# Altium footprint library wikiduino-atmega328p.PcbLib: 28 footprints (part 1 of 2)
Each footprint in its own frame and in the unit in brackets; x right, y up, seen from the top. Pads: shape width x height; smd on the part's side, far side on the other; paste and mask are expansions set on the pad; w line width, h text height; cw(c..) or ccw(c..) is an arc to the next point about the centre after c.
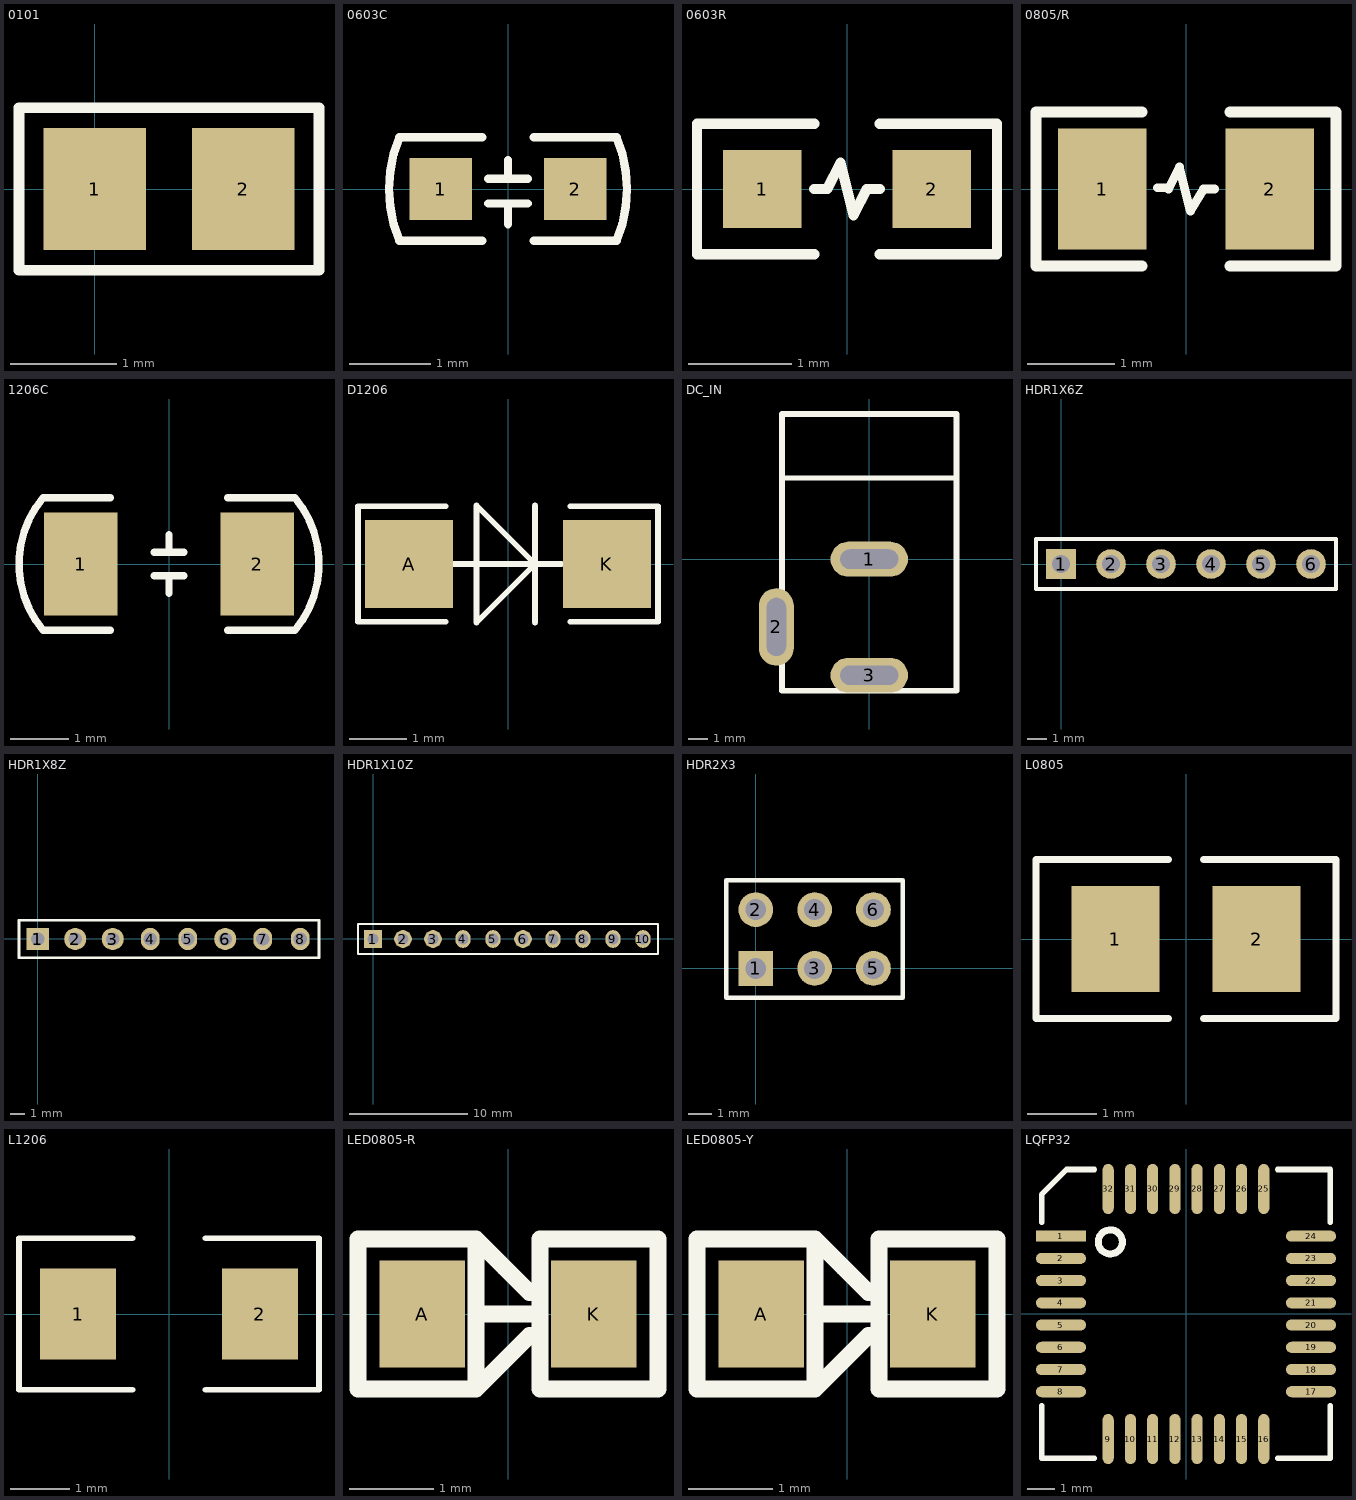
[diagram p0: the footprints below, top view; thin cyan lines are the x and y axes]

## 0101 [mil]
pads (2):
  rect 38x45 smd: 1(0,0) 2(55,0)
Top Overlay:
  lines w3.94: -28,-30 83,-30 83,30 -28,30 -28,-30

## 0603C [mil]
pads (2):
  rect 30x30 smd: 1(-32.5,0) 2(32.5,0)
Top Overlay:
  lines w4: -12.5,-25 -52.5,-25 cw(c7.5,0) -52.5,25 -12.5,25 ; -9.5,-7 9.5,-7 ; -9.5,5 9.5,5 ; 0,-17 0,-7 ; 0,5 0,14 ; 12.5,-25 52.5,-25 ccw(c-7.5,0) 52.5,25 12.5,25
3D body: height 17.72, standoff 0, extent -29.5,-15.5 33.5,16

## 0603R [mil]
pads (2):
  rect 30x30 smd: 1(-32.5,0) 2(32.5,0)
Top Overlay:
  lines w4: -12.5,-25 -57.5,-25 -57.5,25 -12.5,25 ; -12.5,0 -7.5,0 -2.5,10 2.5,-10 7.5,0 12.5,0 ; 12.5,-25 57.5,-25 57.5,25 12.5,25
3D body: height 17.72, standoff 0, extent -31.46,-14.37 31.53,17.12

## 0805/R [mil]
pads (2):
  rect 40x55 smd: 1(-38,0) 2(38,0)
Top Overlay:
  lines w4: -13,0.57 -8,0.57 ; -8,0 -3,10 2,-10 8,0 13,0
  lines w5: -20,-35 -68,-35 -68,35 -20,35 ; 20,-35 68,-35 68,35 20,35
3D body: height 21.65, standoff 0, extent -39,-25 39.74,24.61

## 1206C [mil]
pads (2):
  rect 50x70 smd: 1(-60,0) 2(60,0)
Top Overlay:
  lines w5: -85.62,-45 cw(c-32,0) -85.62,45 ; -85,-45 -40,-45 ; -85,45 -40,45 ; -10,-8 10,-8 ; -10,8 10,8 ; 0,-20 0,-8 ; 0,8 0,20 ; 40,-45 85,-45 ; 40,45 85,45 ; 85.62,-45 ccw(c32,0) 85.62,45
3D body: height 21.65, standoff 0, extent -64,-31 61.98,31.99

## D1206 [mil]
pads (2):
  rect 60x60 smd: A(-67.5,0) K(67.5,0)
Top Overlay:
  lines w3.94: -42.5,-39.37 -102.36,-39.37 -102.36,39.37 -42.5,39.37 ; -37.5,0 36.5,0 ; 18.5,-40 18.5,0 ; 18.5,40 18.5,0 ; 42.5,-39.37 102.36,-39.37 102.36,39.37 42.5,39.37 ; 18.5,0 -21.5,40 -21.5,-40 18.5,0
3D body: height 59.06, standoff 0, extent -66.4,-30 71.4,29.06

## DC_IN [mm]
pads (3):
  oval 4x1.8 hole 1 slot 3 at 0 deg: 1(0,0) 3(0,-6)
  oval 1.8x4 hole 1 slot 3 at 90 deg: 2(-4.8,-3.5)
Top Overlay:
  lines w0.254: -4.5,4.2 4.5,4.2
  lines w0.305: -4.5,-6.8 4.5,-6.8 4.5,7.5 -4.5,7.5 -4.5,-6.8
3D body: height 11.25, standoff -3.25, extent -4.775,-6.262 4.73,7.564

## HDR1X6Z [mm]
pads (6):
  rect 1.5x1.5 hole 0.9: 1(0,0)
  round 1.5 hole 0.9: 2(2.54,0) 3(5.08,0) 4(7.62,0) 5(10.16,0) 6(12.7,0)
Top Overlay:
  lines w0.2: -1.27,-1.27 -1.27,1.27 13.97,1.27 13.97,-1.27 -1.27,-1.27
3D body: height 8.65, standoff -2.9, extent 6.35,-1.25 13.97,1.25
3D body: height 8.65, standoff -2.9, extent -1.27,-1.25 6.35,1.25

## HDR1X8Z [mm]
pads (8):
  rect 1.5x1.5 hole 0.9: 1(0,0)
  round 1.5 hole 0.9: 2(2.54,0) 3(5.08,0) 6(12.7,0)
  oval 1.27x1.5 hole 0.9: 4(7.62,0) 5(10.16,0) 7(15.24,0) 8(17.78,0)
Top Overlay:
  lines w0.2: -1.27,-1.27 19.05,-1.27 19.05,1.27 -1.27,1.27 -1.27,-1.27
3D body: height 8.65, standoff -2.9, extent -1.27,-1.25 8.89,1.25
3D body: height 8.65, standoff -2.9, extent 8.89,-1.25 19.05,1.25

## HDR1X10Z [mm]
pads (10):
  rect 1.5x1.5 hole 0.9: 1(0,0)
  round 1.5 hole 0.9: 2(2.54,0) 3(5.08,0) 6(12.7,0)
  oval 1.27x1.5 hole 0.9: 4(7.62,0) 5(10.16,0) 7(15.24,0) 8(17.78,0) 9(20.32,0) 10(22.86,0)
Top Overlay:
  lines w0.2: -1.27,-1.27 24.13,-1.27 24.13,1.27 -1.27,1.27 -1.27,-1.27
3D body: height 8.65, standoff -2.9, extent -1.27,-1.25 24.13,1.25

## HDR2X3 [mm]
pads (6):
  rect 1.5x1.5 hole 0.9: 1(0,0)
  round 1.5 hole 0.9: 2(0,2.54) 3(2.54,0) 4(2.54,2.54) 5(5.08,0) 6(5.08,2.54)
Top Overlay:
  lines w0.2: -1.27,-1.27 -1.27,3.81 6.35,3.81 6.35,-1.27 -1.27,-1.27
3D body: height 8.7, standoff -2.28, extent -1.275,-1.27 6.345,3.81

## L0805 [mil]
pads (2):
  rect 50x60 smd: 1(-40,0) 2(40,0)
Top Overlay:
  lines w3.94: -10,-45 -85,-45 -85,45 -10,45 ; 10,-45 85,-45 85,45 10,45
3D body: height 37.4, standoff 0, extent -39.37,-23.24 39.37,24

## L1206 [mil]
pads (2):
  rect 50x60 smd: 1(-60,0) 2(60,0)
Top Overlay:
  lines w3.94: -24,-50 -99,-50 -99,50 -24,50 ; 24,-50 99,-50 99,50 24,50
3D body: height 43.31, standoff 0, extent -60.99,-32 64.99,30.99

## LED0805-R [mil]
pads (2):
  rect 40x50 smd: A(-40,0) K(40,0)
Top Overlay:
  lines w7.87: -15,0 10,0 ; -8.91,28.91 -8.48,28.48 ; -1.93,21.93 -1.81,21.81 ; 10,-10 -15,-35 ; 10,10 -15,35 ; 15,-10 15,5 15,0 ; -15,-35 -70,-35 -70,35 -15,35 ; -15,-35 -15,35 ; 15,-35 70,-35 70,35 15,35 15,-35
3D body: height 35.43, standoff -0.39, extent -41.34,-26.57 41.33,26.58

## LED0805-Y [mil]
pads (2):
  rect 40x50 smd: A(-40,0) K(40,0)
Top Overlay:
  lines w7.87: -15,0 10,0 ; -8.91,28.91 -8.48,28.48 ; -1.93,21.93 -1.81,21.81 ; 10,-10 -15,-35 ; 10,10 -15,35 ; 15,-10 15,5 15,0 ; -15,-35 -70,-35 -70,35 -15,35 ; -15,-35 -15,35 ; 15,-35 70,-35 70,35 15,35 15,-35
3D body: height 43.31, standoff 0, extent -39.77,-24.61 39.76,24.6

## LQFP32 [mm]
pads (32):
  rect 1.8x0.4 smd: 1(-4.5,2.8)
  oval 1.8x0.4 smd: 2(-4.5,2) 3(-4.5,1.2) 4(-4.5,0.4) 5(-4.5,-0.4) 6(-4.5,-1.2) 7(-4.5,-2) 8(-4.5,-2.8) 17(4.5,-2.8) 18(4.5,-2) 19(4.5,-1.2) 20(4.5,-0.4) 21(4.5,0.4) 22(4.5,1.2) 23(4.5,2) 24(4.5,2.8)
  oval 0.4x1.8 smd: 9(-2.8,-4.502) 10(-2,-4.502) 11(-1.2,-4.502) 12(-0.4,-4.502) 13(0.4,-4.502) 14(1.2,-4.502) 15(2,-4.502) 16(2.8,-4.502) 25(2.8,4.498) 26(2,4.498) 27(1.2,4.498) 28(0.4,4.498) 29(-0.4,4.498) 30(-1.2,4.498) 31(-2,4.498) 32(-2.8,4.498)
Top Overlay:
  circle w0.254: c-2.724,2.594 r0.434
  lines w0.2: -5.2,-3.3 -5.2,-5.2 -3.3,-5.2 ; -5.2,3.3 -5.2,4.3 -4.3,5.2 -3.3,5.2 ; 3.3,-5.2 5.2,-5.2 5.2,-3.3 ; 3.3,5.2 5.2,5.2 5.2,3.3
3D body: height 1.6, standoff -0.05, extent -4.5,-4.498 4.5,4.502